# Altium schematic symbol library SCH - DRIVER - LED - TI LP8860-Q1VFP.SchLib: 1 symbol
Pins are listed as number, name and electrical type; pins without a type are passive.

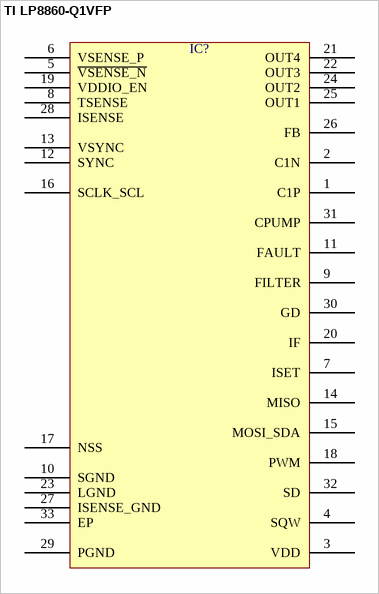
[diagram p0: symbol TI LP8860-Q1VFP]

## TI LP8860-Q1VFP
designator IC?  (value not drawn)
pins: 1 C1P, 2 C1N, 3 VDD, 4 SQW, 5 ~{VSENSE_N}, 6 VSENSE_P, 7 ISET, 8 TSENSE, 9 FILTER, 10 SGND, 11 FAULT, 12 SYNC, 13 VSYNC, 14 MISO, 15 MOSI_SDA, 16 SCLK_SCL, 17 NSS, 18 PWM, 19 VDDIO_EN, 20 IF, 21 OUT4, 22 OUT3, 23 LGND, 24 OUT2, 25 OUT1, 26 FB, 27 ISENSE_GND, 28 ISENSE, 29 PGND, 30 GD, 31 CPUMP, 32 SD, 33 EP